# EAGLE library part MAX63XX (library comms)
Pin-Selectable Watchdog Timer
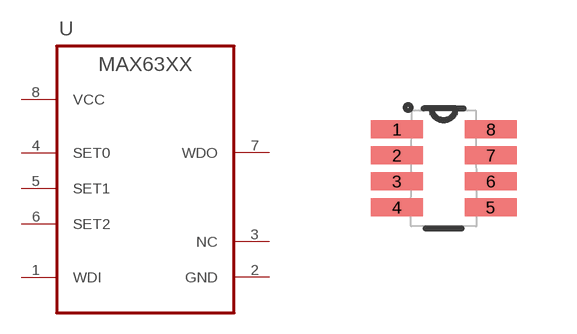
[diagram p10: symbol with the pads of SOT23P130X045-8N; footprint SOT23P130X045-8N]

Designator prefix U

## MAX63XX71KA_SOT23 (MANUFACTURER: Maxim; MANUFACTURER_PN: MAX6371KA+T; OUTPUT_ACTIVE: Low; OUTPUT_ACTIVE_TIME: 120us (min); OUTPUT_TYPE: Open Drain; STARTUP_DELAY: 60s; TIMEOUT: Adjustable (up to 60s); VALUE: MAX6371; VENDOR: Digikey; VENDOR_PN: MAX6371KA+TCT-ND)  [SOT23P130X045-8N]
1  WDI  in
2  GND  pwr
3  NC  nc
4  SET0  in
5  SET1  in
6  SET2  in
7  WDO  oc
8  VCC  pwr

## Footprint SOT23P130X045-8N (pad centres in mm)
smd 1.3 x 0.45: 1 -1.175,0.975; 2 -1.175,0.325; 3 -1.175,-0.325; 4 -1.175,-0.975; 5 1.175,-0.975; 6 1.175,-0.325; 7 1.175,0.325; 8 1.175,0.975